# Altium footprint library WL-SICW.PcbLib: 7 footprints
Each footprint in its own frame and in the unit in brackets; x right, y up, seen from the top. Pads: shape width x height; smd on the part's side, far side on the other; paste and mask are expansions set on the pad; w line width, h text height; cw(c..) or ccw(c..) is an arc to the next point about the centre after c.
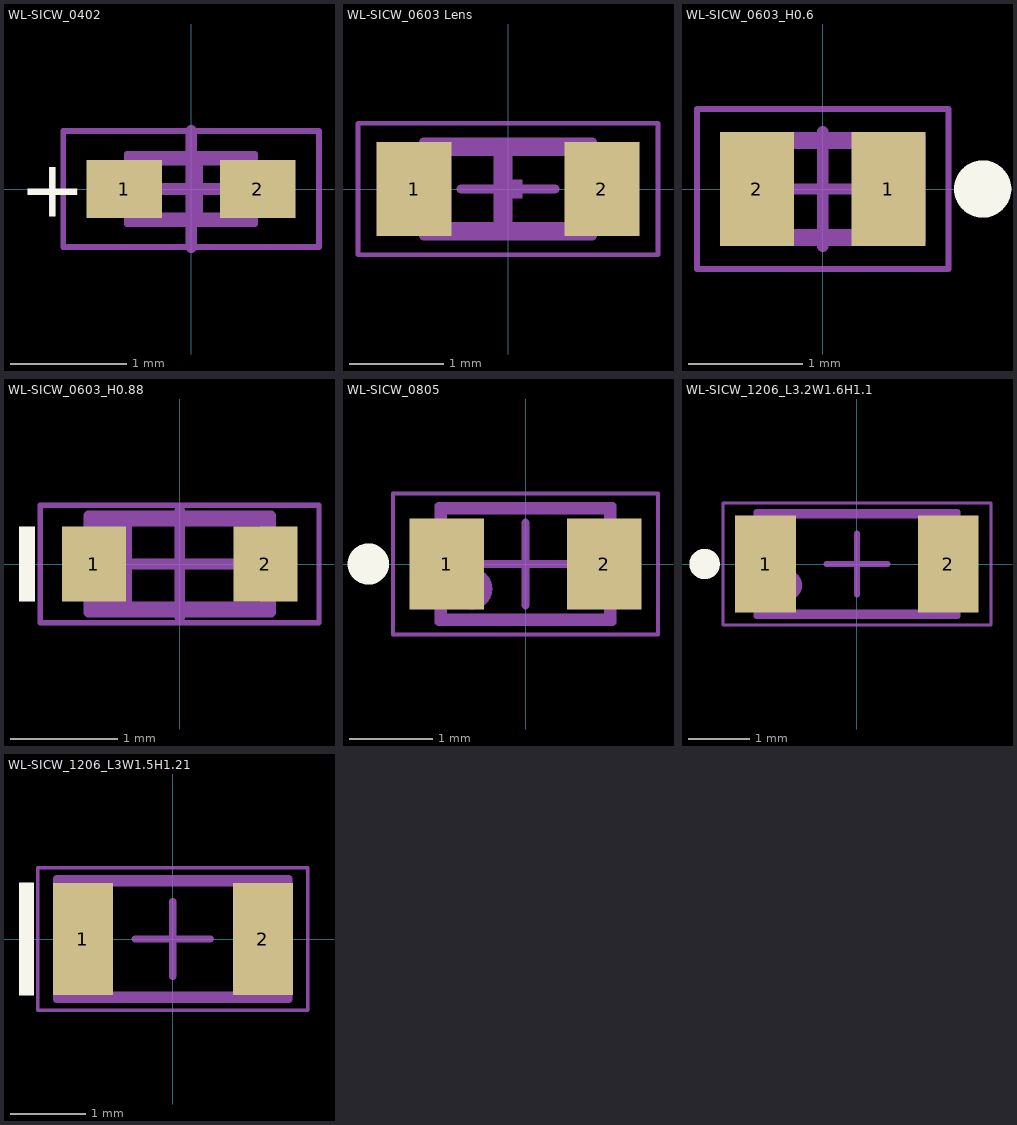
[diagram p0: the footprints below, top view; thin cyan lines are the x and y axes]

## WL-SICW_0402 [mm] "SMT Infrared Chip LED Waterclear, body 1x0.5mm"
height 0.5
pads (2):
  rect 0.65x0.5 smd: 1(-0.575,0) 2(0.575,0)
Top Overlay:
  text "+" at -1.48,-0.24 h0.5
Top Assembly:
  lines w0.05: -0.55,-0.3 0.55,-0.3 0.55,0.3 -0.55,0.3 -0.55,-0.3
Top Designator:
  text ".Designator" at -3.647,-0.357 h1
Top 3D Body:
  region: 0.1,0.25 0.1,-0.25 0,-0.25 0,-0.05 -0.1,-0.05 -0.1,0.05 0,0.05 0,0.25
  lines w0.1: -0.5,-0.25 -0.5,0.25 0.5,0.25 0.5,-0.25 -0.5,-0.25
Top Courtyard:
  lines w0.05: -1.1,-0.5 -1.1,0.5 1.1,0.5 1.1,-0.5 -1.1,-0.5
Top Component Center:
  lines w0.1: -0.5,0 0.5,0 ; 0,-0.5 0,0.5
3D body "154040xxBA420_l.stp": height 0.5, standoff 0, extent -0.5,-0.25 0.5,0.25

## WL-SICW_0603 Lens [mm] "SMD Infrared Chip LED Waterclear, body 1.6x0.8mm"
height 1
pads (2):
  rect 0.8x1 smd: 1(-1,0) 2(1,0)
Top Assembly:
  region: -0.15,0.5 -0.15,-0.5 0,-0.5 0,-0.1 0.15,-0.1 0.15,0.1 0,0.1 0,0.5
  lines w0.1: -0.9,-0.5 -0.9,0.5 0.9,0.5 0.9,-0.5 -0.9,-0.5
Top Designator:
  text ".Designator" at -3.647,-0.357 h1
Top 3D Body:
  region: -0.15,0.4 -0.15,-0.4 0,-0.4 0,-0.1 0.15,-0.1 0.15,0.1 0,0.1 0,0.4
  lines w0.1: -0.8,-0.4 -0.8,0.4 0.8,0.4 0.8,-0.4 -0.8,-0.4
Top Courtyard:
  lines w0.05: -1.6,-0.7 -1.6,0.7 1.6,0.7 1.6,-0.7 -1.6,-0.7
Top Component Center:
  lines w0.1: -0.5,0 0.5,0 ; 0,-0.5 0,0.5
3D body "STP_WL-SICW_15406085B6000 (rev1).stp": height 0.93, standoff 0, extent -0.8,-0.4 0.8,0.4

## WL-SICW_0603_H0.6 [mm] "SMD Infrared Chip LED Waterclear, body 1.6x0.8mm"
height 0.6
pads (2):
  rect 0.65x1 smd: 1(0.575,0) 2(-0.575,0)
Top Overlay:
  circle w0.25: c1.4,0 r0.125
Top Assembly:
  circle w0.1: c0.55,0.15 r0.15
  lines w0.1: -0.85,-0.45 -0.85,0.45 0.85,0.45 0.85,-0.45 -0.85,-0.45
Top Designator:
  text ".Designator" at -3.647,-0.357 h1
Top 3D Body:
  circle w0.1: c0.55,0.15 r0.15
  lines w0.1: -0.8,-0.4 -0.8,0.4 0.8,0.4 0.8,-0.4 -0.8,-0.4
Top Courtyard:
  lines w0.05: -1.1,-0.7 -1.1,0.7 1.1,0.7 1.1,-0.7 -1.1,-0.7
Top Component Center:
  lines w0.1: -0.5,0 0.5,0 ; 0,-0.5 0,0.5
3D body "15406085xxx.stp": height 0.6, standoff 0, extent -0.8,-0.4 0.8,0.4

## WL-SICW_0603_H0.88 [mm] "SMT Infrared Chip LED Waterclear, body 1.6x0.8mm"
height 0.88
pads (2):
  rect 0.6x0.7 smd: 1(-0.8,0) 2(0.8,0)
Top Overlay:
  rectangle: -1.5,-0.35 -1.35,0.35
Top Assembly:
  region: -0.85,0.45 -0.85,-0.45 -0.45,-0.45 -0.45,0.45
  lines w0.1: -0.85,-0.45 0.85,-0.45 0.85,0.45 -0.85,0.45 -0.85,-0.45
Top Designator:
  text ".Designator" at -3.647,-0.357 h1
Top 3D Body:
  region: -0.8,0.4 -0.8,-0.4 -0.45,-0.4 -0.45,0.4
  lines w0.1: -0.8,-0.4 0.8,-0.4 0.8,0.4 -0.8,0.4 -0.8,-0.4
Top Courtyard:
  lines w0.05: -1.3,-0.55 1.3,-0.55 1.3,0.55 -1.3,0.55 -1.3,-0.55
Top Component Center:
  lines w0.1: -0.5,0 0.5,0 ; 0,-0.5 0,0.5
3D body "154060xxBA4xx.stp": height 0.88, standoff 0, extent -0.8,-0.4 0.8,0.4

## WL-SICW_0805 [mm] "SMT Infrared Chip LED Waterclear, body 2x1.3mm"
height 0.8
pads (2):
  rect 0.9x1.1 smd: 1(-0.95,0) 2(0.95,0)
Top Overlay:
  circle w0.25: c-1.9,0 r0.125
Top Assembly:
  circle w0.1: c-0.65,-0.3 r0.2
  lines w0.1: -1.05,-0.7 1.05,-0.7 1.05,0.7 -1.05,0.7 -1.05,-0.7
Top Designator:
  text ".Designator" at -3.647,-0.357 h1
Top 3D Body:
  circle w0.1: c-0.65,-0.3 r0.2
  lines w0.1: -1,-0.65 1,-0.65 1,0.65 -1,0.65 -1,-0.65
Top Courtyard:
  lines w0.05: -1.6,-0.85 -1.6,0.85 1.6,0.85 1.6,-0.85 -1.6,-0.85
Top Component Center:
  lines w0.1: -0.5,0 0.5,0 ; 0,-0.5 0,0.5
3D body "15408085BA400.stp": height 0.8, standoff 0, extent -1,-0.65 1,0.65

## WL-SICW_1206_L3.2W1.6H1.1 [mm] "SMT Infrared Chip LED Waterclear, body 3x1.6mm"
height 1.1
pads (2):
  rect 1x1.6 smd: 1(-1.5,0) 2(1.5,0)
Top Overlay:
  circle w0.25: c-2.5,0 r0.125
Top Assembly:
  circle w0.1: c-1.15,-0.35 r0.2
  lines w0.1: -1.65,-0.85 -1.65,0.85 1.65,0.85 1.65,-0.85 -1.65,-0.85
Top Designator:
  text ".Designator" at -3.647,-0.357 h1
Top 3D Body:
  circle w0.1: c-1.15,-0.35 r0.2
  lines w0.1: -1.6,-0.8 -1.6,0.8 1.6,0.8 1.6,-0.8 -1.6,-0.8
Top Courtyard:
  lines w0.05: -2.2,-1 2.2,-1 2.2,1 -2.2,1 -2.2,-1
Top Component Center:
  lines w0.1: -0.5,0 0.5,0 ; 0,-0.5 0,0.5
3D body "15412085BA400.stp": height 1.1, standoff 0, extent -1.6,-0.8 1.6,0.8

## WL-SICW_1206_L3W1.5H1.21 [mm] "SMT Infrared Chip LED Waterclear, body 3x1.5mm"
height 1.21
pads (2):
  rect 0.8x1.5 smd: 1(-1.2,0) 2(1.2,0)
Top Overlay:
  region: -2.05,0.75 -2.05,-0.75 -1.85,-0.75 -1.85,0.75
Top Assembly:
  region: -1.55,0.8 -1.55,-0.8 -1.15,-0.8 -1.15,0.8
  lines w0.1: -1.55,-0.8 -1.55,0.8 1.55,0.8 1.55,-0.8 -1.55,-0.8
Top Designator:
  text ".Designator" at -3.647,-0.357 h1
Top 3D Body:
  region: -1.5,0.75 -1.5,-0.75 -1.15,-0.75 -1.15,0.75
  lines w0.1: -1.5,-0.75 -1.5,0.75 1.5,0.75 1.5,-0.75 -1.5,-0.75
Top Courtyard:
  lines w0.05: -1.8,-0.95 1.8,-0.95 1.8,0.95 -1.8,0.95 -1.8,-0.95
Top Component Center:
  lines w0.1: -0.5,0 0.5,0 ; 0,-0.5 0,0.5
3D body "154120xxA90xx.stp": height 1.21, standoff 0, extent -1.5,-0.75 1.5,0.75